# EAGLE library part UC5350 (library house)
CAN Tranceiver
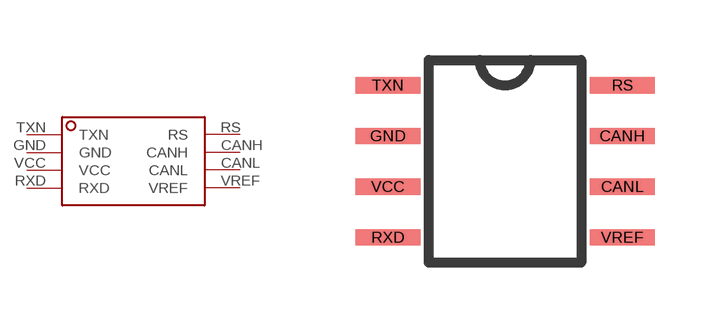
[diagram p0: symbol with the pads of SOIC8; footprint SOIC8]

Designator prefix -

## UC5350D  [SOIC8]
CANH  CANH
CANL  CANL
GND  GND
RS  RS
RXD  RXD
TXN  TXN
VCC  VCC
VREF  VREF

## Footprint SOIC8 (pad centres in mm)
smd 1.626 x 0.406: CANH 2.934,1.27; CANL 2.934,0; GND -2.934,1.27; RS 2.934,2.54; RXD -2.934,-1.27; TXN -2.934,2.54; VCC -2.934,0; VREF 2.934,-1.27